# EAGLE library part MOTOR-BOARD_DRV8818PWPR (library MotherboardRev2)
Driver controlador de motor en paquete HTSSOP
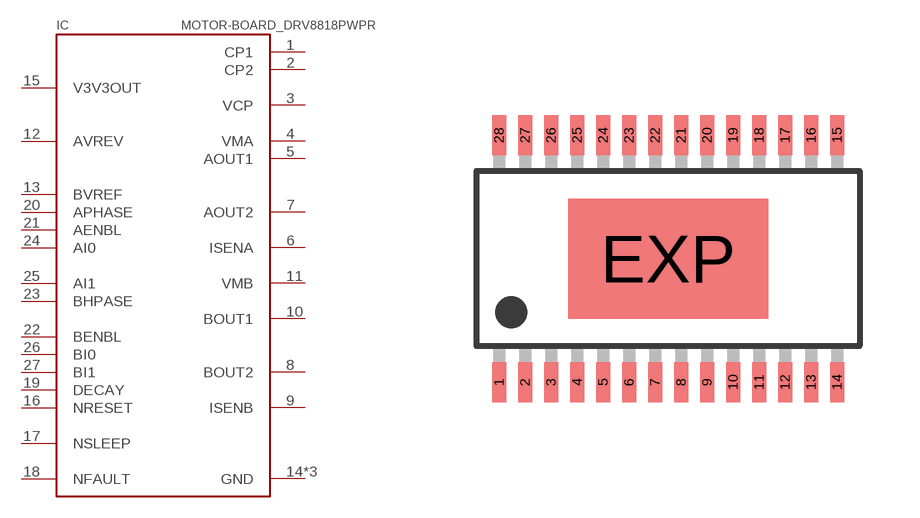
[diagram p2: symbol with the pads of MOTOR-BOARD_TSSOP-28; footprint MOTOR-BOARD_TSSOP-28]

Designator prefix IC

## MOTOR-BOARD_DRV8818PWPR  [MOTOR-BOARD_TSSOP-28]
1  CP1
2  CP2
3  VCP
4  VMA  pwr
5  AOUT1  pwr
6  ISENA  out
7  AOUT2  out
8  BOUT2  pas
9  ISENB  pas
10  BOUT1  out
11  VMB  out
12  AVREV  pas
13  BVREF  in
14  GND  pwr
15  V3V3OUT
16  NRESET  pas
17  NSLEEP  pas
18  NFAULT  pas
19  DECAY  pwr
20  APHASE  in
21  AENBL  in
22  BENBL  in
23  BHPASE  in
24  AI0  in
25  AI1  in
26  BI0  in
27  BI1  out
28  GND  pwr
EXP  GND  pwr

## Footprint MOTOR-BOARD_TSSOP-28 (pad centres in mm)
smd 0.35 x 1: 1 -4.225,-3.087; 2 -3.575,-3.087; 3 -2.925,-3.087; 4 -2.275,-3.087; 5 -1.625,-3.087; 6 -0.975,-3.087; 7 -0.325,-3.087; 8 0.325,-3.087; 9 0.975,-3.087; 10 1.625,-3.087; 11 2.275,-3.087; 12 2.925,-3.087; 13 3.575,-3.087; 14 4.225,-3.087; 15 4.225,3.087; 16 3.575,3.087; 17 2.925,3.087; 18 2.275,3.087; 19 1.625,3.087; 20 0.975,3.087; 21 0.325,3.087; 22 -0.325,3.087; 23 -0.975,3.087; 24 -1.625,3.087; 25 -2.275,3.087; 26 -2.925,3.087; 27 -3.575,3.087; 28 -4.225,3.087
smd 5 x 3: EXP 0,0